# Altium footprint library SULLINS_SBH11-PBPC-D05-ST-BK.PcbLib: 1 footprints
Each footprint in its own frame and in the unit in brackets; x right, y up, seen from the top. Pads: shape width x height; smd on the part's side, far side on the other; paste and mask are expansions set on the pad; w line width, h text height; cw(c..) or ccw(c..) is an arc to the next point about the centre after c.
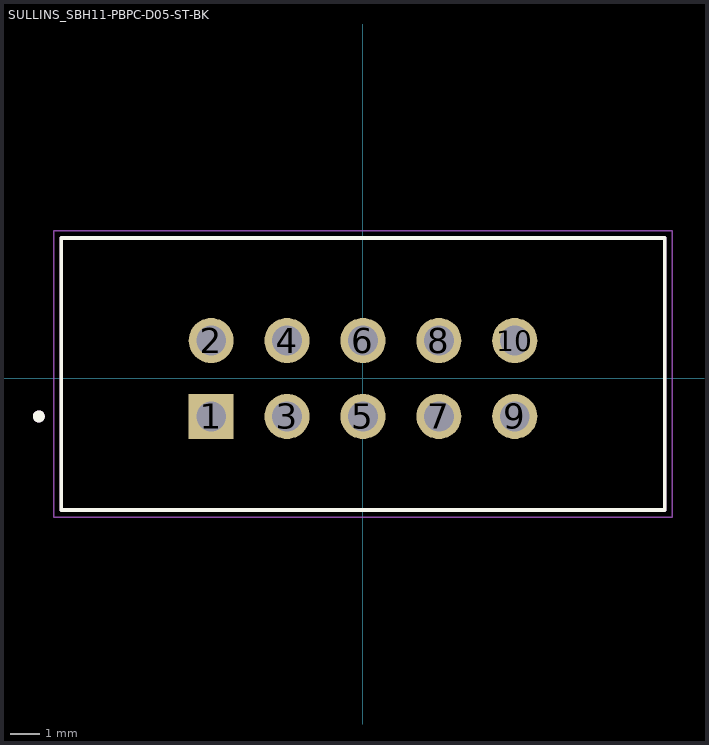
[diagram p0: the footprint, top view; thin cyan lines are the x and y axes]

## SULLINS_SBH11-PBPC-D05-ST-BK [mm]
height 9.1
pads (10):
  rect 1.508x1.508 / inner round 1.508 / far side rect 1.508x1.508 hole 1: 1(-5.08,-1.27)
  round 1.508 hole 1: 2(-5.08,1.27) 3(-2.54,-1.27) 4(-2.54,1.27) 5(0,-1.27) 6(0,1.27) 7(2.54,-1.27) 8(2.54,1.27) 9(5.08,-1.27) 10(5.08,1.27)
Top Overlay:
  circle w0.2: c-10.85,-1.27 r0.1
  lines w0.127: -10.1,-4.4 -10.1,4.7 10.1,4.7 10.1,-4.4 -10.1,-4.4
Mechanical 13:
  circle w0.2: c-10.85,-1.27 r0.1
  lines w0.127: -10.1,-4.4 -10.1,4.7 10.1,4.7 10.1,-4.4 -10.1,-4.4
Mechanical 15:
  lines w0.05: -10.35,-4.65 -10.35,4.95 10.35,4.95 10.35,-4.65 -10.35,-4.65
3D body "step_temp.STEP": height 9.09, standoff -3, extent -10.096,-4.394 10.096,4.699